# EAGLE library part HEADER-1X9 (library nonolith)
PIN HEADER
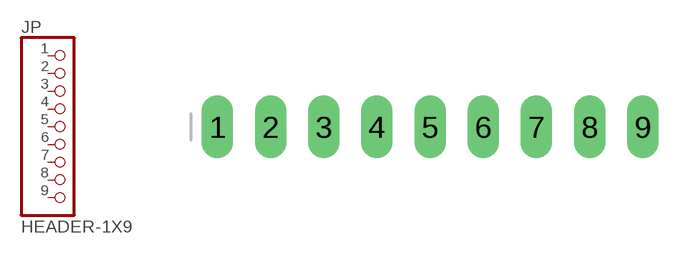
[diagram p8: symbol with the pads of 1X09_OVAL; footprint 1X09_OVAL]

Designator prefix JP

## HEADER-1X9  [1X09_OVAL]
1  1  pas
2  2  pas
3  3  pas
4  4  pas
5  5  pas
6  6  pas
7  7  pas
8  8  pas
9  9  pas

## Footprint 1X09_OVAL (pad centres in mm)
PIN HEADER
drill 1 long: 1 -10.16,0; 2 -7.62,0; 3 -5.08,0; 4 -2.54,0; 5 0,0; 6 2.54,0; 7 5.08,0; 8 7.62,0; 9 10.16,0